# Altium schematic symbol library BC807-25.SchLib: 1 symbol
Pins are listed as number, name and electrical type; pins without a type are passive.

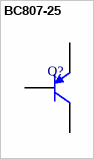
[diagram p0: symbol BC807-25]

## BC807-25
designator Q?
PNP General Purpose Amplifier
pins: 1 B, 2 E, 3 C